# EAGLE library part ADS1115IDGST (library GROUND-STATION-POWER-BOARD)
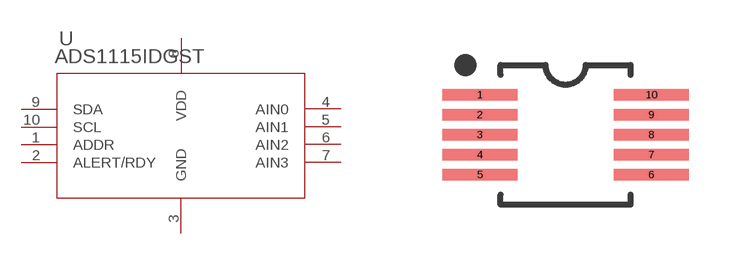
[diagram p3: symbol with the pads of DGS10-M; footprint DGS10-M]

Designator prefix U

## ADS1115IDGSTDGS10-M (MANUFACTURER_PART_NUMBER: ADS1115IDGST; VENDOR: Texas Instruments)  [DGS10-M]
1  ADDR  in
2  ALERT/RDY  out
3  GND  pwr
4  AIN0  in
5  AIN1  in
6  AIN2  in
7  AIN3  in
8  VDD  pwr
9  SDA
10  SCL  in

## Footprint DGS10-M (pad centres in mm)
smd 1.88 x 0.279: 1 -2.146,1; 2 -2.146,0.5; 3 -2.146,0; 4 -2.146,-0.5; 5 -2.146,-1; 6 2.146,-1; 7 2.146,-0.5; 8 2.146,0; 9 2.146,0.5; 10 2.146,1